# Altium footprint library Transistor.PcbLib: 59 footprints (part 2 of 4)
Each footprint in its own frame and in the unit in brackets; x right, y up, seen from the top. Pads: shape width x height; smd on the part's side, far side on the other; paste and mask are expansions set on the pad; w line width, h text height; cw(c..) or ccw(c..) is an arc to the next point about the centre after c.
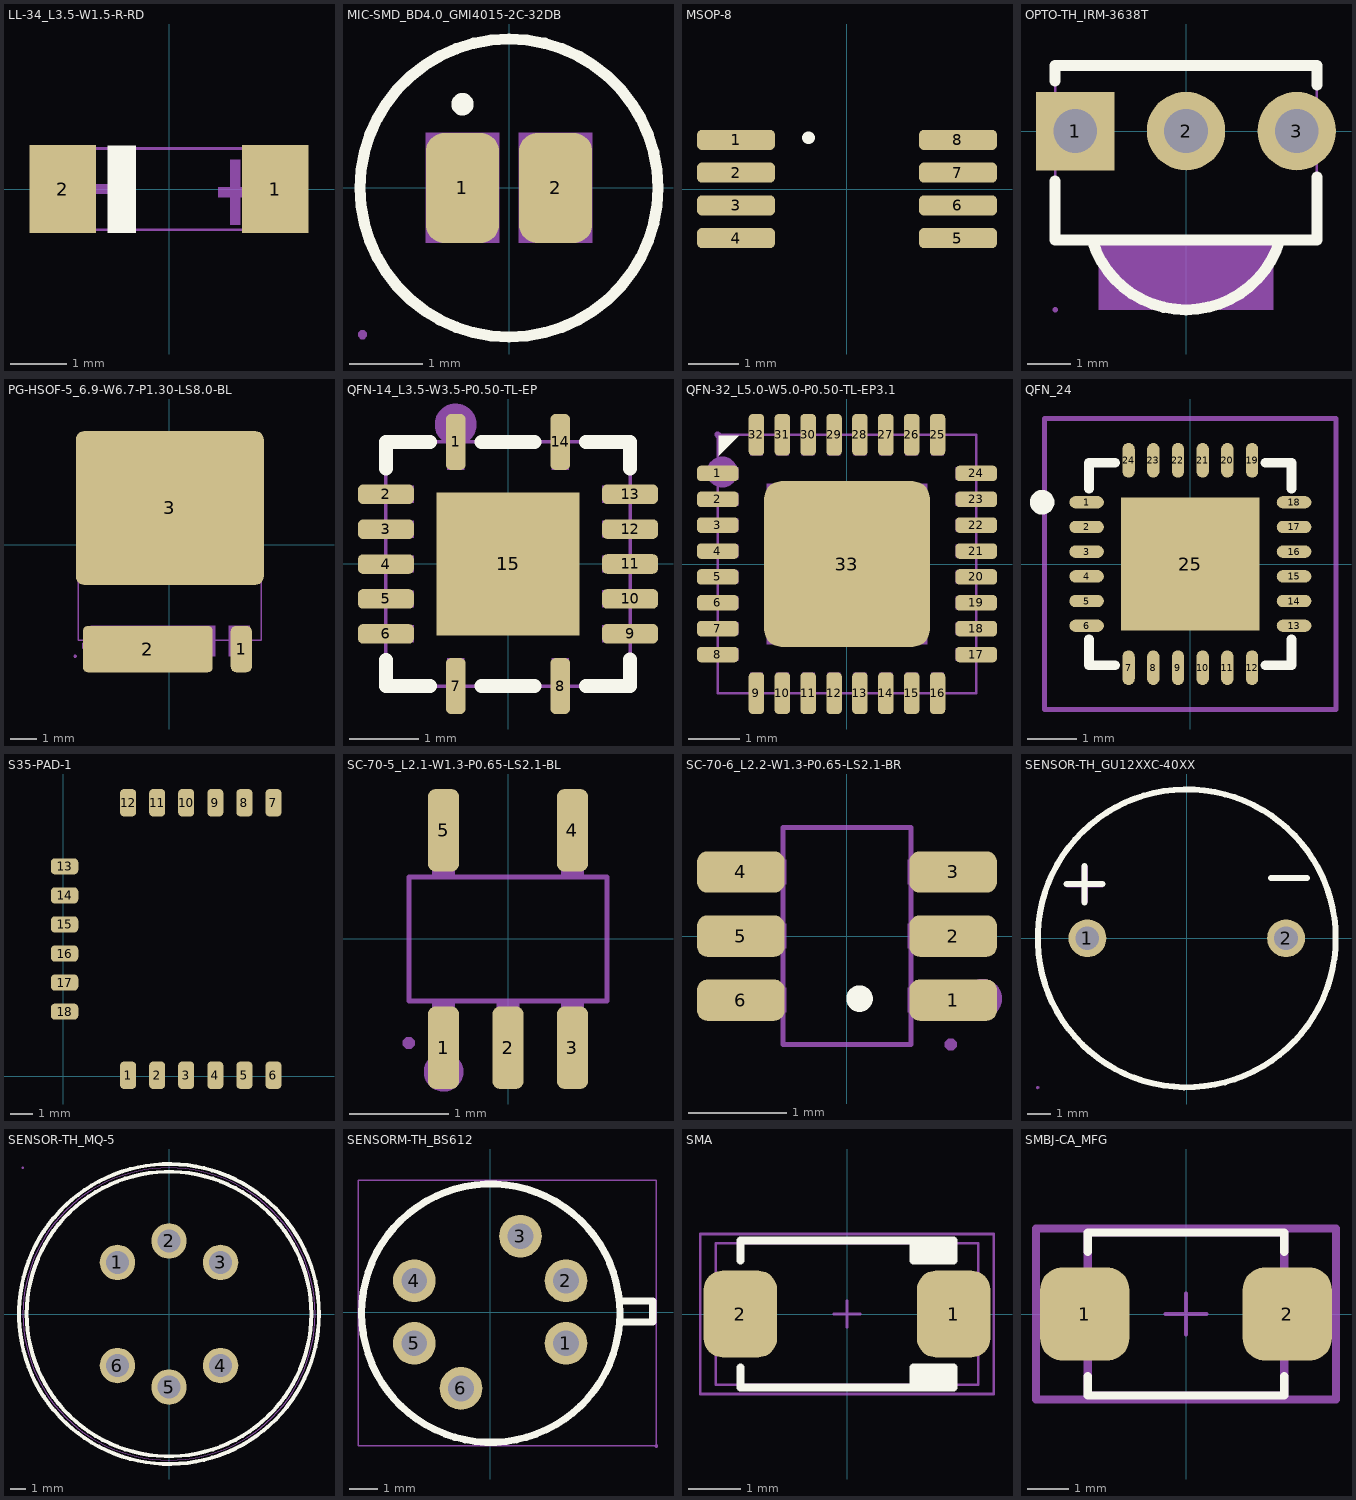
[diagram p1: the footprints below, top view; thin cyan lines are the x and y axes]

## LL-34_L3.5-W1.5-R-RD [mm]
pads (2):
  rect 1.185x1.566 smd: 1(1.893,0) 2(-1.893,0)
Top Overlay:
  region: -1.097,0.776 -0.589,0.776 -0.589,-0.776 -1.097,-0.776
Mechanical 6:
  region: 1.27,-0.635 1.27,0.525 1.096,0.525 1.096,-0.635
  region: 1.576,-0.142 1.576,0.032 0.88,0.032 0.88,-0.142
  region: -1.576,-0.087 -1.576,0.087 -0.88,0.087 -0.88,-0.087
Mechanical 15:
  region: 1.75,-0.725 1.75,0.725 1.45,0.725 1.45,-0.725
  region: -1.75,-0.725 -1.75,0.725 -1.45,0.725 -1.45,-0.725
  region: 1.81,0.725 1.81,0.75 1.775,0.785 1.725,0.785 1.69,0.75 1.69,0.725 1.69,0.7 1.725,0.665 1.775,0.665 1.81,0.7 1.81,0.725
  lines w0.051: -1.75,-0.725 1.75,-0.725 1.75,0.725 -1.75,0.725 -1.75,-0.725
3D body "User Library-MiniMelf-2-1.STEP": height 1.6, standoff 0, extent -1.88,-0.8 1.82,0.8

## MIC-SMD_BD4.0_GMI4015-2C-32DB [mm]
pads (2):
  rrect50% 1x1.5 smd paste+0 mask+0.05: 1(-0.635,0) 2(0.635,0)
Top Overlay:
  circle w0.152: c0,0 r2.032
  circle w0.254: c-0.635,1.143 r0.025
Mechanical 15:
  region: -1.94,-2 -1.94,-1.975 -1.975,-1.94 -2.025,-1.94 -2.06,-1.975 -2.06,-2 -2.06,-2.025 -2.025,-2.06 -1.975,-2.06 -1.94,-2.025 -1.94,-2
  region: 0.135,0.75 1.135,0.75 1.135,-0.75 0.135,-0.75
  region: -1.135,0.75 -0.135,0.75 -0.135,-0.75 -1.135,-0.75
  lines w0.051: -2,0 cw(c0,0) 2,0 cw(c0,0) -2,0

## MSOP-8 [mm]
height 1.1
pads (8):
  rrect50% 1.55x0.4 smd: 1(-2.202,0.975) 2(-2.202,0.325) 3(-2.202,-0.325) 4(-2.202,-0.975) 5(2.202,-0.975) 6(2.202,-0.325) 7(2.202,0.325) 8(2.202,0.975)
Top Overlay:
  circle w0.254: c-0.762,1.016 r0
3D body "MUY08A_ASM.stp": height 0.94, standoff -0.02, extent -2.451,-1.499 2.451,1.499

## OPTO-TH_IRM-3638T [mm]
pads (3):
  rect 1.8x1.8 hole 1: 1(-2.54,0)
  round 1.8 hole 1: 2(0,0) 3(2.54,0)
Top Overlay:
  lines w0.254: -3,-1.15 -3,-2.5 3,-2.5 3,-1.054 ; -3,1.15 -3,1.5 3,1.5 3,1.054 ; -2.153,-2.504 ccw(c0,-1.85) 2.154,-2.5
Mechanical 6:
  region: -2,-2.5 2,-2.5 2,-4.1 -2,-4.1
Mechanical 15:
  region: 2.29,0.2 2.79,0.2 2.79,-0.2 2.29,-0.2
  region: -0.25,0.2 0.25,0.2 0.25,-0.2 -0.25,-0.2
  region: -2.79,0.2 -2.29,0.2 -2.29,-0.2 -2.79,-0.2
  region: -2.94,-4.1 -2.941,-4.076 -2.976,-4.042 -3.024,-4.042 -3.059,-4.076 -3.06,-4.1 -3.059,-4.124 -3.024,-4.158 -2.976,-4.158 -2.941,-4.124 -2.94,-4.1
  lines w0.051: 1.6,-2.5 cw(c0,-2.5) -1.6,-2.5 -3,-2.5 -3,1.5 3,1.5 3,-2.5 1.6,-2.5

## PG-HSOF-5_6.9-W6.7-P1.30-LS8.0-BL [mm]
pads (3):
  rrect50% 0.8x1.75 smd: 1(2.718,-3.937)
  rrect20% 4.902x1.75 smd: 2(-0.813,-3.937)
  rrect10% 7.1x5.8 smd: 3(0.016,1.392)
Mechanical 6:
  circle w0.254: c-3.048,-3.81 r0.127
Mechanical 15:
  region: 2.241,-3.057 3.041,-3.057 3.041,-4.207 2.241,-4.207
  region: 1.741,-4.207 1.741,-3.057 0.941,-3.057 0.441,-3.057 -0.359,-3.057 -0.859,-3.057 -1.659,-3.057 -2.159,-3.057 -2.959,-3.057 -2.959,-3.307 -2.959,-4.207 -2.159,-4.207 -2.159,-3.307 -1.659,-3.307 -1.659,-4.207 -0.859,-4.207 -0.859,-3.307 -0.359,-3.307 -0.359,-4.207 0.441,-4.207 0.441,-3.307 0.941,-3.307 0.941,-4.207
  region: -3.434,3.802 3.466,3.802 3.466,-1.398 -3.434,-1.398
  region: -3.499,-4.207 -3.499,-4.183 -3.534,-4.147 -3.584,-4.147 -3.619,-4.183 -3.619,-4.207 -3.619,-4.232 -3.584,-4.267 -3.534,-4.267 -3.499,-4.232 -3.499,-4.207
  lines w0.051: -3.434,-3.598 3.466,-3.598 3.466,3.102 -3.434,3.102 -3.434,-3.598
3D body "fin.step": height 1.81, standoff 0, extent -3.5,-4.191 3.5,3.809

## QFN-14_L3.5-W3.5-P0.50-TL-EP [mm]
pads (15):
  rrect50% 0.28x0.8 smd paste-100 mask+0.051: 1(-0.748,1.75) 7(-0.75,-1.75) 8(0.75,-1.75) 14(0.75,1.75)
  rrect50% 0.8x0.28 smd paste-100 mask+0.051: 2(-1.75,0.998) 3(-1.75,0.499) 4(-1.75,-0.002) 5(-1.75,-0.501) 6(-1.75,-1.002) 9(1.75,-1) 10(1.75,-0.5) 11(1.75,0) 12(1.75,0.5) 13(1.75,1)
  rect 2.05x2.05 smd paste-100 mask+0.051: 15(0,0)
Top Overlay:
  lines w0.2: -1.75,-1.373 -1.75,-1.75 -1.121,-1.75 ; -1.75,1.37 -1.75,1.75 -1.119,1.75 ; -0.379,-1.75 0.379,-1.75 ; -0.377,1.75 0.379,1.75 ; 1.121,-1.75 1.75,-1.75 1.75,-1.371 ; 1.121,1.75 1.75,1.75 1.75,1.371
Top Paste:
  region: 0.61,2.15 0.61,1.35 0.89,1.35 0.89,2.15
  region: -0.888,2.15 -0.888,1.35 -0.608,1.35 -0.608,2.15
  region: 2.15,0.86 2.15,1.14 1.35,1.14 1.35,0.86
  region: -2.15,1.138 -2.15,0.858 -1.35,0.858 -1.35,1.138
  region: 0.9,-0.9 0.9,0.9 -0.9,0.9 -0.9,-0.9
  region: 1.35,0.64 1.35,0.36 2.15,0.36 2.15,0.64
  region: -2.15,0.639 -2.15,0.359 -1.35,0.359 -1.35,0.639
  region: 1.35,0.14 1.35,-0.14 2.15,-0.14 2.15,0.14
  region: -2.15,0.138 -2.15,-0.142 -1.35,-0.142 -1.35,0.138
  region: 1.35,-0.36 1.35,-0.64 2.15,-0.64 2.15,-0.36
  region: -2.15,-0.361 -2.15,-0.641 -1.35,-0.641 -1.35,-0.361
  region: 1.35,-0.86 1.35,-1.14 2.15,-1.14 2.15,-0.86
  region: -2.15,-0.862 -2.15,-1.142 -1.35,-1.142 -1.35,-0.862
  region: -0.89,-1.35 -0.89,-2.15 -0.61,-2.15 -0.61,-1.35
  region: 0.89,-2.15 0.89,-1.35 0.61,-1.35 0.61,-2.15
Mechanical 6:
  circle w0.3: c-0.75,2 r0.15
Mechanical 15:
  region: -1.69,1.75 -1.69,1.775 -1.725,1.81 -1.775,1.81 -1.81,1.775 -1.81,1.75 -1.81,1.725 -1.775,1.69 -1.725,1.69 -1.69,1.725 -1.69,1.75
  region: 0.63,1.35 0.63,1.75 0.87,1.75 0.87,1.35
  region: 1.35,0.88 1.35,1.12 1.75,1.12 1.75,0.88
  region: 1.35,0.38 1.35,0.62 1.75,0.62 1.75,0.38
  region: 1.35,-0.12 1.35,0.12 1.75,0.12 1.75,-0.12
  region: 1.35,-0.62 1.35,-0.38 1.75,-0.38 1.75,-0.62
  region: 1.35,-1.12 1.35,-0.88 1.75,-0.88 1.75,-1.12
  region: 0.63,-1.75 0.63,-1.35 0.87,-1.35 0.87,-1.75
  region: -0.87,-1.75 -0.87,-1.35 -0.63,-1.35 -0.63,-1.75
  region: -1.75,-1.122 -1.75,-0.882 -1.35,-0.882 -1.35,-1.122
  region: -1.75,-0.621 -1.75,-0.381 -1.35,-0.381 -1.35,-0.621
  region: -1.75,-0.122 -1.75,0.118 -1.35,0.118 -1.35,-0.122
  region: -1.75,0.379 -1.75,0.619 -1.35,0.619 -1.35,0.379
  region: -1.75,0.878 -1.75,1.118 -1.35,1.118 -1.35,0.878
  region: -0.868,1.35 -0.868,1.75 -0.628,1.75 -0.628,1.35
  region: 1,1 1,-1 -1,-1 -1,1
  lines w0.051: -1.75,-1.75 1.75,-1.75 1.75,1.75 -1.75,1.75 -1.75,-1.75

## QFN-32_L5.0-W5.0-P0.50-TL-EP3.1 [mm]
pads (33):
  rrect50% 0.8x0.3 smd paste-100 mask+0.051: 1(-2.5,1.75) 2(-2.5,1.25) 3(-2.5,0.75) 4(-2.5,0.25) 5(-2.5,-0.25) 6(-2.5,-0.75) 7(-2.5,-1.25) 8(-2.5,-1.75) 17(2.5,-1.75) 18(2.5,-1.25) 19(2.5,-0.75) 20(2.5,-0.25) 21(2.5,0.25) 22(2.5,0.75) 23(2.5,1.25) 24(2.5,1.75)
  rrect50% 0.3x0.8 smd paste-100 mask+0.051: 9(-1.75,-2.5) 10(-1.25,-2.5) 11(-0.75,-2.5) 12(-0.25,-2.5) 13(0.25,-2.5) 14(0.75,-2.5) 15(1.25,-2.5) 16(1.75,-2.5) 25(1.75,2.5) 26(1.25,2.5) 27(0.75,2.5) 28(0.25,2.5) 29(-0.25,2.5) 30(-0.75,2.5) 31(-1.25,2.5) 32(-1.75,2.5)
  rrect20% 3.2x3.2 smd paste-100 mask+0.051: 33(0,0)
Top Overlay:
  region: -2.095,2.476 -2.476,2.476 -2.476,2.095
Top Paste:
  drawing of 33 lines, arcs and shapes, not listed
Mechanical 6:
  circle w0.3: c-2.413,1.778 r0.15
Mechanical 15:
  drawing of 38 lines, arcs and shapes, not listed
3D body "User Library-VQFN-32.STEP": height 1.01, standoff 0, extent -2.56,-2.56 2.56,2.56

## QFN_24 [mm] "QFN_24"
pads (25):
  oval 0.7x0.25 smd: 1(-2.1,1.25) 2(-2.1,0.75) 3(-2.1,0.25) 4(-2.1,-0.25) 5(-2.1,-0.75) 6(-2.1,-1.25) 13(2.1,-1.25) 14(2.1,-0.75) 15(2.1,-0.25) 16(2.1,0.25) 17(2.1,0.75) 18(2.1,1.25)
  oval 0.25x0.7 smd: 7(-1.25,-2.1) 8(-0.75,-2.1) 9(-0.25,-2.1) 10(0.25,-2.1) 11(0.75,-2.1) 12(1.25,-2.1) 19(1.25,2.1) 20(0.75,2.1) 21(0.25,2.1) 22(-0.25,2.1) 23(-0.75,2.1) 24(-1.25,2.1)
  rect 2.8x2.7 smd: 25(0,0)
Top Overlay:
  circle w0.25: c-3,1.25 r0.125
  lines w0.2: -2.05,-1.525 -2.05,-2.05 -1.525,-2.05 ; -2.05,1.525 -2.05,2.05 -1.525,2.05 ; 1.525,-2.05 2.05,-2.05 2.05,-1.525 ; 1.525,2.05 2.05,2.05 2.05,1.525
Mechanical 15:
  lines w0.1: -0.5,0 0.5,0 ; 0,-0.5 0,0.5 ; -2.95,-2.95 -2.95,2.95 2.95,2.95 2.95,-2.95 -2.95,-2.95
3D body "User Library-mpu-6050_qfn-24.stp": height 0.95, standoff 0.05, extent -2.02,-2.02 2.02,2.02

## S35-PAD-1 [mm]
pads (18):
  rrect50% 0.7x1.2 smd: 1(2.825,0.05) 2(4.095,0.05) 3(5.365,0.05) 4(6.635,0.05) 5(7.905,0.05) 6(9.175,0.05) 7(9.175,11.95) 8(7.905,11.95) 9(6.635,11.95) 10(5.365,11.95) 11(4.095,11.95) 12(2.825,11.95)
  rrect50% 1.2x0.7 smd: 13(0.05,9.175) 14(0.05,7.905) 15(0.05,6.635) 16(0.05,5.365) 17(0.05,4.095) 18(0.05,2.825)

## SC-70-5_L2.1-W1.3-P0.65-LS2.1-BL [mm]
pads (5):
  rrect50% 0.315x0.835 smd mask+0.051: 1(-0.65,-1.097) 2(0,-1.097) 3(0.65,-1.097) 4(0.65,1.096) 5(-0.65,1.096)
Mechanical 6:
  circle w0.2: c-0.65,-1.341 r0.1
Mechanical 15:
  region: -0.763,0.71 -0.538,0.71 -0.538,0.615 -0.763,0.615
  region: -0.763,0.954 -0.538,0.954 -0.538,1.304 -0.763,1.304
  region: 0.537,0.71 0.762,0.71 0.762,0.615 0.537,0.615
  region: 0.537,0.954 0.762,0.954 0.762,1.304 0.537,1.304
  region: 0.537,-0.615 0.762,-0.615 0.762,-0.71 0.537,-0.71
  region: 0.537,-0.954 0.762,-0.954 0.762,-1.304 0.537,-1.304
  region: -0.113,-0.615 0.112,-0.615 0.112,-0.71 -0.113,-0.71
  region: -0.113,-0.954 0.112,-0.954 0.112,-1.304 -0.113,-1.304
  region: -0.763,-0.615 -0.538,-0.615 -0.538,-0.71 -0.763,-0.71
  region: -0.763,-0.954 -0.538,-0.954 -0.538,-1.304 -0.763,-1.304
  region: -0.94,-1.05 -0.94,-1.025 -0.975,-0.99 -1.025,-0.99 -1.06,-1.025 -1.06,-1.05 -1.06,-1.075 -1.025,-1.11 -0.975,-1.11 -0.94,-1.075 -0.94,-1.05
  lines w0.051: -1,-0.625 -1,0.625 1,0.625 1,-0.625 -1,-0.625
3D body "DCK5.step": height 1.09, standoff 0, extent -1.08,-1.194 1.08,1.194

## SC-70-6_L2.2-W1.3-P0.65-LS2.1-BR [mm]
pads (6):
  rrect50% 0.889x0.42 smd mask+0.051: 1(1.077,-0.65) 2(1.077,0) 3(1.077,0.65) 4(-1.077,0.65) 5(-1.077,0) 6(-1.077,-0.65)
Top Overlay:
  lines w0.2: 0.126,-0.601 ccw(c0.127,-0.635) 0.128,-0.601
Mechanical 6:
  circle w0.2: c1.372,-0.635 r0.1
Mechanical 15:
  region: 1.113,-1.1 1.113,-1.075 1.078,-1.04 1.029,-1.04 0.993,-1.075 0.993,-1.1 0.993,-1.125 1.029,-1.16 1.078,-1.16 1.113,-1.125 1.113,-1.1
  region: -0.616,0.775 -0.616,0.525 -0.761,0.525 -0.761,0.775
  region: -0.751,0.775 -0.751,0.525 -1.051,0.525 -1.051,0.775
  region: -0.751,0.125 -0.751,-0.125 -1.051,-0.125 -1.051,0.125
  region: -0.616,0.125 -0.616,-0.125 -0.761,-0.125 -0.761,0.125
  region: -0.751,-0.525 -0.751,-0.775 -1.051,-0.775 -1.051,-0.525
  region: -0.616,-0.525 -0.616,-0.775 -0.761,-0.775 -0.761,-0.525
  region: 0.753,-0.775 0.753,-0.525 1.053,-0.525 1.053,-0.775
  region: 0.618,-0.775 0.618,-0.525 0.763,-0.525 0.763,-0.775
  region: 0.753,-0.125 0.753,0.125 1.053,0.125 1.053,-0.125
  region: 0.618,-0.125 0.618,0.125 0.763,0.125 0.763,-0.125
  region: 0.753,0.525 0.753,0.775 1.053,0.775 1.053,0.525
  region: 0.618,0.525 0.618,0.775 0.763,0.775 0.763,0.525
  lines w0.051: -0.65,-1.1 0.65,-1.1 0.65,1.1 -0.65,1.1 -0.65,-1.1
3D body "SC70-6.step": height 1.07, standoff -0.03, extent -1.05,-1 1.05,1

## SENSOR-TH_GU12XXC-40XX [mm]
pads (2):
  round 1.6 hole 1: 1(-4.2,0) 2(4.2,0)
Top Overlay:
  circle w0.254: c0,0 r6.3
  lines w0.254: -5.08,2.286 -3.556,2.286 ; -4.318,1.524 -4.318,3.048 ; 3.556,2.54 5.08,2.54
Mechanical 6:
  region: -5.08,2.159 -5.08,2.413 -3.556,2.413 -3.556,2.159
  region: -4.194,1.529 -4.448,1.529 -4.448,3.053 -4.194,3.053
Mechanical 15:
  region: -6.24,-6.313 -6.24,-6.288 -6.275,-6.253 -6.325,-6.253 -6.36,-6.288 -6.36,-6.313 -6.36,-6.338 -6.325,-6.373 -6.275,-6.373 -6.24,-6.338 -6.24,-6.313
  region: 4.55,0 4.55,0.07 4.497,0.198 4.398,0.297 4.269,0.35 4.13,0.35 4.002,0.297 3.903,0.198 3.85,0.07 3.85,0 3.85,-0.07 3.903,-0.198 4.002,-0.297 4.13,-0.35 4.27,-0.35 4.398,-0.297 4.497,-0.198 4.55,-0.07 4.55,0
  region: -3.85,0 -3.85,0.07 -3.903,0.198 -4.002,0.297 -4.13,0.35 -4.27,0.35 -4.398,0.297 -4.497,0.198 -4.55,0.07 -4.55,0 -4.55,-0.07 -4.497,-0.198 -4.398,-0.297 -4.269,-0.35 -4.13,-0.35 -4.002,-0.297 -3.903,-0.198 -3.85,-0.07 -3.85,0
  lines w0.051: -6.3,0 cw(c0,0.013) 6.3,0 cw(c0,-0.013) -6.3,0

## SENSOR-TH_MQ-5 [mm]
pads (6):
  round 2.3 hole 1.5: 1(-3.353,3.353) 2(0,4.75) 3(3.353,3.353) 4(3.353,-3.353) 5(0,-4.75) 6(-3.353,-3.353)
Top Overlay:
  circle w0.254: c0,0 r9.251
  circle w0.254: c0,0 r9.751
Mechanical 15:
  region: -9.44,9.5 -9.44,9.525 -9.475,9.56 -9.525,9.56 -9.56,9.525 -9.56,9.5 -9.56,9.475 -9.525,9.44 -9.475,9.44 -9.44,9.475 -9.44,9.5
  region: -2.853,3.353 -2.853,3.452 -2.929,3.636 -3.07,3.777 -3.253,3.853 -3.452,3.853 -3.636,3.777 -3.777,3.636 -3.853,3.452 -3.853,3.353 -3.853,3.253 -3.777,3.07 -3.636,2.929 -3.452,2.853 -3.253,2.853 -3.07,2.929 -2.929,3.07 -2.853,3.253 -2.853,3.353
  region: -2.853,-3.353 -2.853,-3.253 -2.929,-3.07 -3.07,-2.929 -3.253,-2.853 -3.452,-2.853 -3.636,-2.929 -3.777,-3.07 -3.853,-3.253 -3.853,-3.353 -3.853,-3.452 -3.777,-3.636 -3.636,-3.777 -3.452,-3.853 -3.253,-3.853 -3.07,-3.777 -2.929,-3.636 -2.853,-3.452 -2.853,-3.353
  region: 0.5,-4.75 0.5,-4.65 0.424,-4.467 0.283,-4.326 0.099,-4.25 -0.1,-4.25 -0.283,-4.326 -0.424,-4.467 -0.5,-4.65 -0.5,-4.75 -0.5,-4.849 -0.424,-5.033 -0.283,-5.174 -0.1,-5.25 0.099,-5.25 0.283,-5.174 0.424,-5.033 0.5,-4.849 0.5,-4.75
  region: 0.5,4.75 0.5,4.849 0.424,5.033 0.283,5.174 0.099,5.25 -0.1,5.25 -0.283,5.174 -0.424,5.033 -0.5,4.849 -0.5,4.75 -0.5,4.65 -0.424,4.467 -0.283,4.326 -0.1,4.25 0.099,4.25 0.283,4.326 0.424,4.467 0.5,4.65 0.5,4.75
  region: 3.853,3.353 3.853,3.452 3.777,3.636 3.636,3.777 3.452,3.853 3.253,3.853 3.069,3.777 2.929,3.636 2.853,3.452 2.853,3.353 2.853,3.253 2.929,3.07 3.069,2.929 3.253,2.853 3.452,2.853 3.636,2.929 3.777,3.07 3.853,3.253 3.853,3.353
  region: 3.853,-3.353 3.853,-3.253 3.777,-3.07 3.636,-2.929 3.452,-2.853 3.253,-2.853 3.069,-2.929 2.929,-3.07 2.853,-3.253 2.853,-3.353 2.853,-3.452 2.929,-3.636 3.069,-3.777 3.253,-3.853 3.452,-3.853 3.636,-3.777 3.777,-3.636 3.853,-3.452 3.853,-3.353
  lines w0.051: -9.5,0 cw(c0,0) 9.5,0 cw(c0,0) -9.5,0

## SENSORM-TH_BS612 [mil]
pads (6):
  round 60 hole 36: 1(106.3,-43.51) 2(106.3,44.3) 3(42.52,106.7) 4(-106.3,44.3) 5(-106.3,-43.51) 6(-40.94,-106.7)
Top Overlay:
  circle w10: c0.79,-1.19 r181.1
  lines w10: 181.89,15.75 227.95,15.75 227.95,-13.38 185.04,-13.38
Mechanical 15:
  region: 235.31,-187.28 235.31,-186.31 233.93,-184.92 231.97,-184.92 230.59,-186.31 230.59,-187.29 230.59,-188.27 231.97,-189.65 233.93,-189.65 235.31,-188.26 235.31,-187.28
  region: -26.88,-106.7 -26.91,-103.92 -29.09,-98.82 -33.04,-94.93 -38.17,-92.82 -43.71,-92.82 -48.84,-94.93 -52.79,-98.82 -54.96,-103.92 -55,-106.7 -54.96,-109.47 -52.79,-114.57 -48.84,-118.47 -43.71,-120.57 -38.16,-120.57 -33.03,-118.47 -29.09,-114.57 -26.91,-109.47 -26.88,-106.7
  region: -92.24,-43.51 -92.27,-40.73 -94.45,-35.63 -98.4,-31.74 -103.53,-29.63 -109.07,-29.63 -114.2,-31.74 -118.15,-35.63 -120.32,-40.73 -120.36,-43.51 -120.32,-46.28 -118.15,-51.38 -114.2,-55.28 -109.07,-57.38 -103.53,-57.38 -98.39,-55.28 -94.45,-51.38 -92.27,-46.28 -92.24,-43.51
  region: -92.24,44.29 -92.27,47.07 -94.45,52.17 -98.4,56.06 -103.53,58.17 -109.07,58.17 -114.2,56.06 -118.15,52.17 -120.32,47.07 -120.36,44.29 -120.32,41.52 -118.15,36.42 -114.2,32.52 -109.07,30.42 -103.53,30.42 -98.39,32.52 -94.45,36.42 -92.27,41.52 -92.24,44.29
  region: 56.58,106.69 56.55,109.47 54.37,114.57 50.42,118.46 45.29,120.57 39.75,120.57 34.62,118.46 30.67,114.57 28.5,109.47 28.46,106.69 28.5,103.92 30.67,98.82 34.62,94.92 39.75,92.82 45.3,92.82 50.43,94.92 54.37,98.82 56.55,103.92 56.58,106.69
  region: 120.36,44.29 120.33,47.07 118.15,52.17 114.2,56.06 109.07,58.17 103.53,58.17 98.4,56.06 94.45,52.17 92.28,47.07 92.24,44.29 92.28,41.52 94.45,36.42 98.4,32.52 103.53,30.42 109.08,30.42 114.21,32.52 118.15,36.42 120.33,41.52 120.36,44.29
  region: 120.36,-43.51 120.33,-40.73 118.15,-35.63 114.2,-31.74 109.07,-29.63 103.53,-29.63 98.4,-31.74 94.45,-35.63 92.28,-40.73 92.24,-43.51 92.28,-46.28 94.45,-51.38 98.4,-55.28 103.53,-57.38 109.08,-57.38 114.21,-55.28 118.15,-51.38 120.33,-46.28 120.36,-43.51
  lines w2: -185.31,-187.28 -185.31,184.91 232.95,184.91 232.95,-187.28 -185.31,-187.28

## SMA [mil] "SMA"
height 169.29
pads (2):
  rrect50% 55x65 smd: 1(80,0) 2(-80,0)
Top Overlay:
  region: 50,-40 50,-55 80,-55 80,-40
  region: 50,40 50,55 80,55 80,40
  lines w6: -80,-40 -80,-55 80,-55 80,-40 50,-40 50,-55 ; -80,40 -80,55 80,55 80,40 50,40 50,55
Mechanical 13:
  lines w2: -10.01,-0.01 9.99,-0.01 ; -0.01,-10.01 -0.01,9.99 ; -98.44,-53.16 -98.44,53.14 98.41,53.14 98.41,-53.16 -98.44,-53.16
Mechanical 14:
  lines w2: -110,-60 110,-60 110,60 -110,60 -110,-60
3D body "User Library-DO-214AC_SMA.STEP": height 84.69, standoff -1.97, extent -98.44,-53.16 98.41,53.14

## SMBJ-CA_MFG [mm] "无极性SMB"
height 4.3
pads (2):
  rrect50% 2.16x2.26 smd paste+0 mask+0: 1(-2.45,0) 2(2.45,0)
Top Overlay:
  lines w0.2: -2.375,-1.505 -2.375,-1.97 2.375,-1.97 2.375,-1.505 ; -2.375,1.505 -2.375,1.97 2.375,1.97 2.375,1.505
Mechanical 10:
  lines w0.2: -3.63,-2.07 -3.63,2.07 3.63,2.07 3.63,-2.07 -3.63,-2.07
Mechanical 12:
  lines w0.2: -2.375,-1.97 -2.375,1.97 2.375,1.97 2.375,-1.97 -2.375,-1.97
Mechanical 15:
  lines w0.1: -0.5,0 0.5,0 ; 0,-0.5 0,0.5
  lines w0.2: -3.63,-2.07 -3.63,2.07 3.63,2.07 3.63,-2.07 -3.63,-2.07
3D body "Diode_Littelfuse_Inc_SMBJ28CA_eec.STEP": height 2.62, standoff 0, extent -2.7,-1.81 2.7,1.81